# Altium footprint library NTS2101PT1G.PCBLIB: 1 footprints
Each footprint in its own frame and in the unit in brackets; x right, y up, seen from the top. Pads: shape width x height; smd on the part's side, far side on the other; paste and mask are expansions set on the pad; w line width, h text height; cw(c..) or ccw(c..) is an arc to the next point about the centre after c.
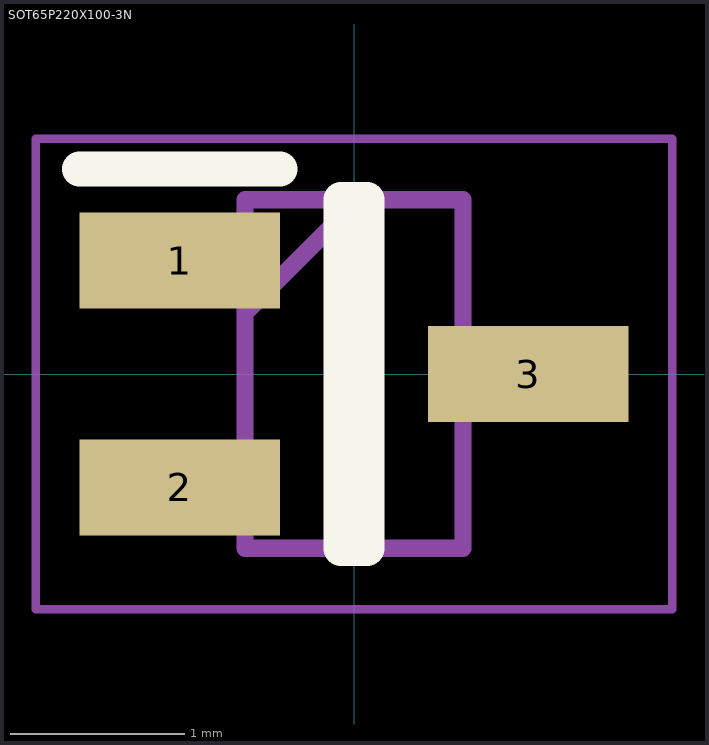
[diagram p0: the footprint, top view; thin cyan lines are the x and y axes]

## SOT65P220X100-3N [mm]
pads (3):
  rect 1.15x0.55 smd: 1(-1,0.65) 2(-1,-0.65) 3(1,0)
Top Overlay:
  lines w0.2: -1.575,1.175 -0.425,1.175 ; -0.075,-1 0.075,-1 0.075,1 -0.075,1 -0.075,-1
Mechanical 16:
  lines w0.05: -1.825,-1.35 1.825,-1.35 1.825,1.35 -1.825,1.35 -1.825,-1.35
  lines w0.1: -0.625,0.35 0.025,1 ; -0.625,-1 0.625,-1 0.625,1 -0.625,1 -0.625,-1